# EAGLE library part LT3592 (library PowerProducts)
LT-Spice library generated with : ltspice.ulp from: D:/Program Files (x86)/LTC/LTspiceIV/lib/sym/PowerProducts/LT3645*.asy at 07.10.2012 16:21:44
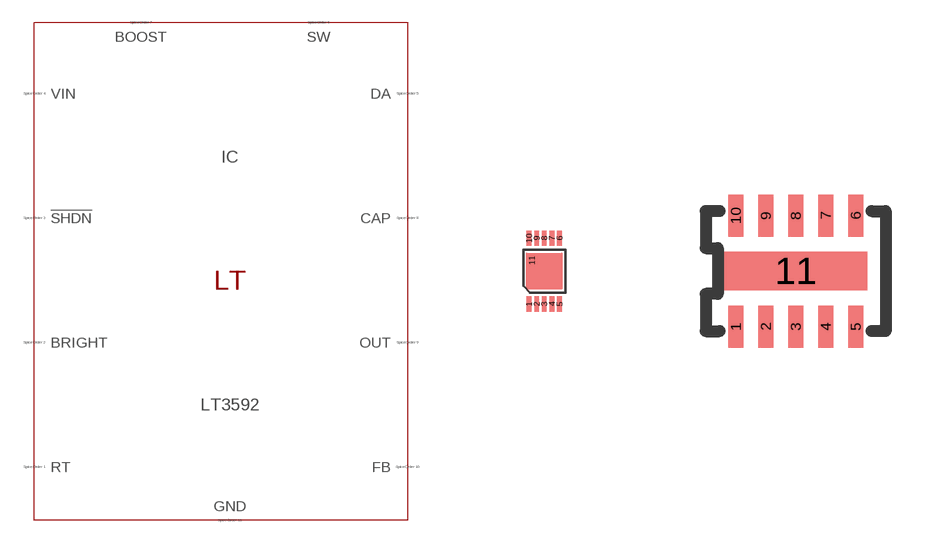
[diagram p79: symbol with the pads of MSOP10(MSE); footprints MSOP10(MSE), DFN10(DDB)]

Designator prefix IC

## LT3592MSE (SPICEMODEL: LT3592.sub; SPICEPREFIX: X; VALUE2: LT3592)  [MSOP10(MSE)]
1  RT  pas
2  BRIGHT  pas
3  !SHDN  pas
4  VIN  pas
5  DA  pas
6  SW  pas
7  BOOST  pas
8  CAP  pas
9  OUT  pas
10  FB  pas
11  GND  pas

## LT3592 (SPICEMODEL: LT3592.sub; SPICEPREFIX: X; VALUE2: LT3592)  [DFN10(DDB)]
Pads as for MSOP10(MSE)

## Footprint MSOP10(MSE) (pad centres in mm)
Package generated from: MSOP10(MSE).asc (!PADS-POWERPCB-V9.3-BASIC! DESIGN DATABASE ASCII FILE 1.0) with :import-pads-powerpcb-v5.ulp Version 1.0.1 at 04.10.2012 14:11:19
smd 0.116 x 0.387: 1 -0.381,-0.823; 2 -0.191,-0.823; 3 0,-0.823; 4 0.191,-0.823; 5 0.381,-0.823; 6 0.381,0.823; 7 0.191,0.823; 8 0,0.823; 9 -0.191,0.823; 10 -0.381,0.823
smd 0 x 0.097: 11 -0.31,0.271

## Footprint DFN10(DDB) (pad centres in mm)
Package generated from: DFN10(DDB).asc (!PADS-POWERPCB-V5.0-BASIC! DESIGN DATABASE ASCII FILE 1.0) with :import-pads-powerpcb-v5.ulp Version 1.0.1 at 04.10.2012 14:11:16
smd 0.375 x 1.05: 1 -1.5,-1.387; 2 -0.75,-1.387; 3 0,-1.387; 4 0.75,-1.387; 5 1.5,-1.387; 6 1.5,1.387; 7 0.75,1.387; 8 0,1.387; 9 -0.75,1.387; 10 -1.5,1.387
smd 3.585 x 0.96: 11 0,0